# Altium integrated library ESP模块.IntLib: 6 symbols
Pins are listed as number, name and electrical type; pins without a type are passive.

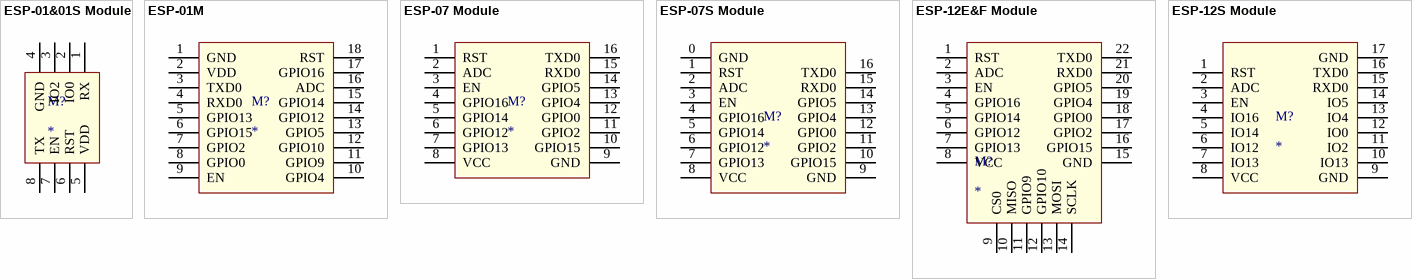
[diagram p0: symbols ESP-01&01S Module to ESP-12S Module]

## ESP-01&01S Module
designator M?
footprint ESP-01&01S Module
pins: 1 RX, 2 IO0, 3 IO2, 4 GND, 5 VDD, 6 RST, 7 EN, 8 TX

## ESP-01M
designator M?
footprint ESP-01M
pins: 1 GND, 2 VDD, 3 TXD0, 4 RXD0, 5 GPIO13, 6 GPIO15, 7 GPIO2, 8 GPIO0, 9 EN, 10 GPIO4, 11 GPIO9, 12 GPIO10, 13 GPIO5, 14 GPIO12, 15 GPIO14, 16 ADC, 17 GPIO16, 18 RST

## ESP-07 Module
designator M?
ESP-07 Module
footprint ESP-07 Module
pins: 1 RST, 2 ADC, 3 EN, 4 GPIO16, 5 GPIO14, 6 GPIO12, 7 GPIO13, 8 VCC, 9 GND, 10 GPIO15, 11 GPIO2, 12 GPIO0, 13 GPIO4, 14 GPIO5, 15 RXD0, 16 TXD0

## ESP-07S Module
designator M?
ESP-07S Module
footprint ESP-07S Module
pins: 0 GND, 1 RST, 2 ADC, 3 EN, 4 GPIO16, 5 GPIO14, 6 GPIO12, 7 GPIO13, 8 VCC, 9 GND, 10 GPIO15, 11 GPIO2, 12 GPIO0, 13 GPIO4, 14 GPIO5, 15 RXD0, 16 TXD0

## ESP-12E&F Module
designator M?
ESP-12E&F Module
footprint ESP-12E&F Module
pins: 1 RST, 2 ADC, 3 EN, 4 GPIO16, 5 GPIO14, 6 GPIO12, 7 GPIO13, 8 VCC, 9 CS0, 10 MISO, 11 GPIO9, 12 GPIO10, 13 MOSI, 14 SCLK, 15 GND, 16 GPIO15, 17 GPIO2, 18 GPIO0, 19 GPIO4, 20 GPIO5, 21 RXD0, 22 TXD0

## ESP-12S Module
designator M?
ESP-12S Module
footprint ESP-12S Module
pins: 1 RST, 2 ADC, 3 EN, 4 IO16, 5 IO14, 6 IO12, 7 IO13, 8 VCC, 9 GND, 10 IO13, 11 IO2, 12 IO0, 13 IO4, 14 IO5, 15 RXD0, 16 TXD0, 17 GND